# Altium footprint library TST-105-XX-Y-D.PcbLib: 1 footprints
Each footprint in its own frame and in the unit in brackets; x right, y up, seen from the top. Pads: shape width x height; smd on the part's side, far side on the other; paste and mask are expansions set on the pad; w line width, h text height; cw(c..) or ccw(c..) is an arc to the next point about the centre after c.
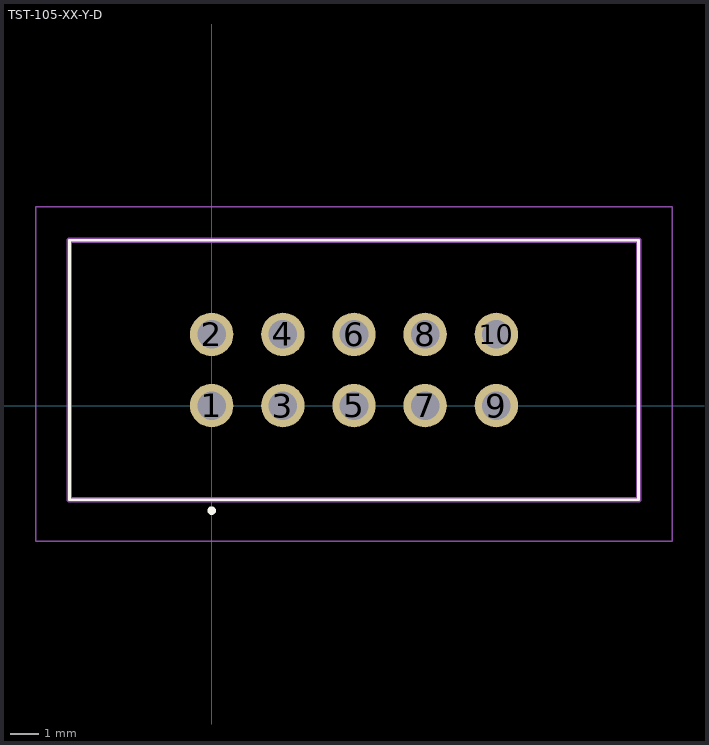
[diagram p0: the footprint, top view; thin cyan lines are the x and y axes]

## TST-105-XX-Y-D [mm]
pads (10):
  round 1.55 hole 1.02: 1(0,0) 2(0,2.54) 3(2.54,0) 4(2.54,2.54) 5(5.08,0) 6(5.08,2.54) 7(7.62,0) 8(7.62,2.54) 9(10.16,0) 10(10.16,2.54)
Top Overlay:
  circle w0.2: c0,-3.75 r0.05
  lines w0.1: -5.08,-3.365 15.24,-3.365 15.24,5.905 -5.08,5.905 -5.08,-3.365
Mechanical 15:
  lines w0.2: -5.08,-3.365 15.24,-3.365 15.24,5.905 -5.08,5.905 -5.08,-3.365
Mechanical 20:
  lines w0.05: -6.28,-4.85 16.44,-4.85 16.44,7.105 -6.28,7.105 -6.28,-4.85